# Altium footprint library Sensor_Distance.PcbLib: 2 footprints
Each footprint in its own frame and in the unit in brackets; x right, y up, seen from the top. Pads: shape width x height; smd on the part's side, far side on the other; paste and mask are expansions set on the pad; w line width, h text height; cw(c..) or ccw(c..) is an arc to the next point about the centre after c.
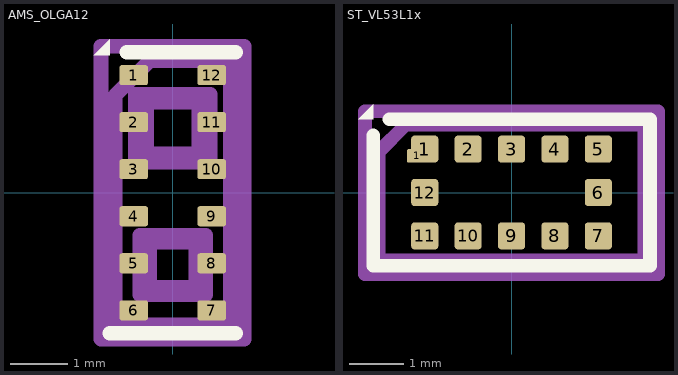
[diagram p0: the footprints below, top view; thin cyan lines are the x and y axes]

## AMS_OLGA12 [mm]
pads (12):
  rrect25% 0.5x0.35 smd: 1(-0.68,2.05) 2(-0.68,1.23) 3(-0.68,0.41) 4(-0.68,-0.41) 5(-0.68,-1.23) 6(-0.68,-2.05) 7(0.68,-2.05) 8(0.68,-1.23) 9(0.68,-0.41) 10(0.68,0.41) 11(0.68,1.23) 12(0.68,2.05)
F.SilkS:
  region: -1.1,2.4 -1.38,2.4 -1.1,2.68
  lines w0.254: -1.1,-2.45 1.1,-2.45 ; -0.8,2.45 1.1,2.45
F.Fab:
  lines w0.254: -1,-2.3 -1,1.7 -0.4,2.3 1,2.3 1,-2.3 -1,-2.3
  text "'.Designator'" at 0.84,-4.047 h1
F.CrtYd:
  lines w0.254: -1.25,-2.55 -1.25,2.55 1.25,2.55 1.25,-2.55 -1.25,-2.55
Cmts.User:
  lines w0.254: -0.652,0.531 -0.652,1.719 0.652,1.719 0.652,0.531 -0.652,0.531 ; -0.577,-1.777 -0.577,-0.739 0.577,-0.739 0.577,-1.777 -0.577,-1.777 ; -0.45,0.675 -0.45,1.575 0.45,1.575 0.45,0.675 -0.45,0.675 ; -0.403,-1.651 -0.403,-0.865 0.403,-0.865 0.403,-1.651 -0.403,-1.651

## ST_VL53L1x [mm]
pads (13):
  rrect25% 0.38x0.25 smd: 1(-1.74,0.675)
  rrect25% 0.5x0.5 smd: 1(-1.6,0.8) 2(-0.8,0.8) 3(0,0.8) 4(0.8,0.8) 5(1.6,0.8) 6(1.6,0) 7(1.6,-0.8) 8(0.8,-0.8) 9(0,-0.8) 10(-0.8,-0.8) 11(-1.6,-0.8) 12(-1.6,0)
F.SilkS:
  region: -2.55,1.35 -2.83,1.35 -2.55,1.63
  lines w0.254: -2.55,1.05 -2.55,-1.35 2.55,-1.35 2.55,1.35 -2.25,1.35
F.Fab:
  lines w0.254: -2.45,-1.25 2.45,-1.25 2.45,1.25 -1.95,1.25 -2.45,0.75 -2.45,-1.25
  text "'.Designator'" at -4.047,-0.84 h1
F.CrtYd:
  lines w0.254: -2.7,-1.5 2.7,-1.5 2.7,1.5 -2.7,1.5 -2.7,-1.5
3D body "ST_VL53L1x.step": height 1.56, standoff -0.01, extent -2.45,-1.25 2.45,1.25